# Altium schematic symbol library Conn_5pin.SchLib: 1 symbol
Pins are listed as number, name and electrical type; pins without a type are passive.

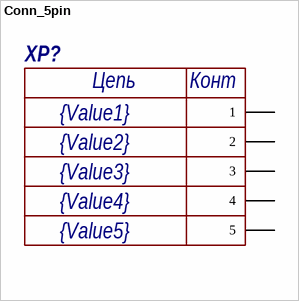
[diagram p0: symbol Conn_5pin]

## Conn_5pin
designator XP?  Value1: {Value1}  Value2: {Value2}  Value3: {Value3}  Value4: {Value4}  Value5: {Value5}
pins: 1, 2, 3, 4, 5
text: Цепь; Конт